# Altium schematic symbol library Conn_2pin.SchLib: 1 symbol
Pins are listed as number, name and electrical type; pins without a type are passive.

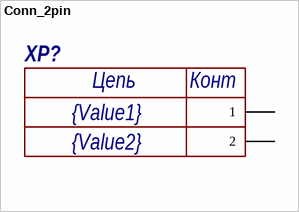
[diagram p0: symbol Conn_2pin]

## Conn_2pin
designator XP?  Value2: {Value2}  Value1: {Value1}
pins: 1, 2
text: Цепь; Конт